# Altium footprint library PcbLib1.PcbLib: 7 footprints
Each footprint in its own frame and in the unit in brackets; x right, y up, seen from the top. Pads: shape width x height; smd on the part's side, far side on the other; paste and mask are expansions set on the pad; w line width, h text height; cw(c..) or ccw(c..) is an arc to the next point about the centre after c.
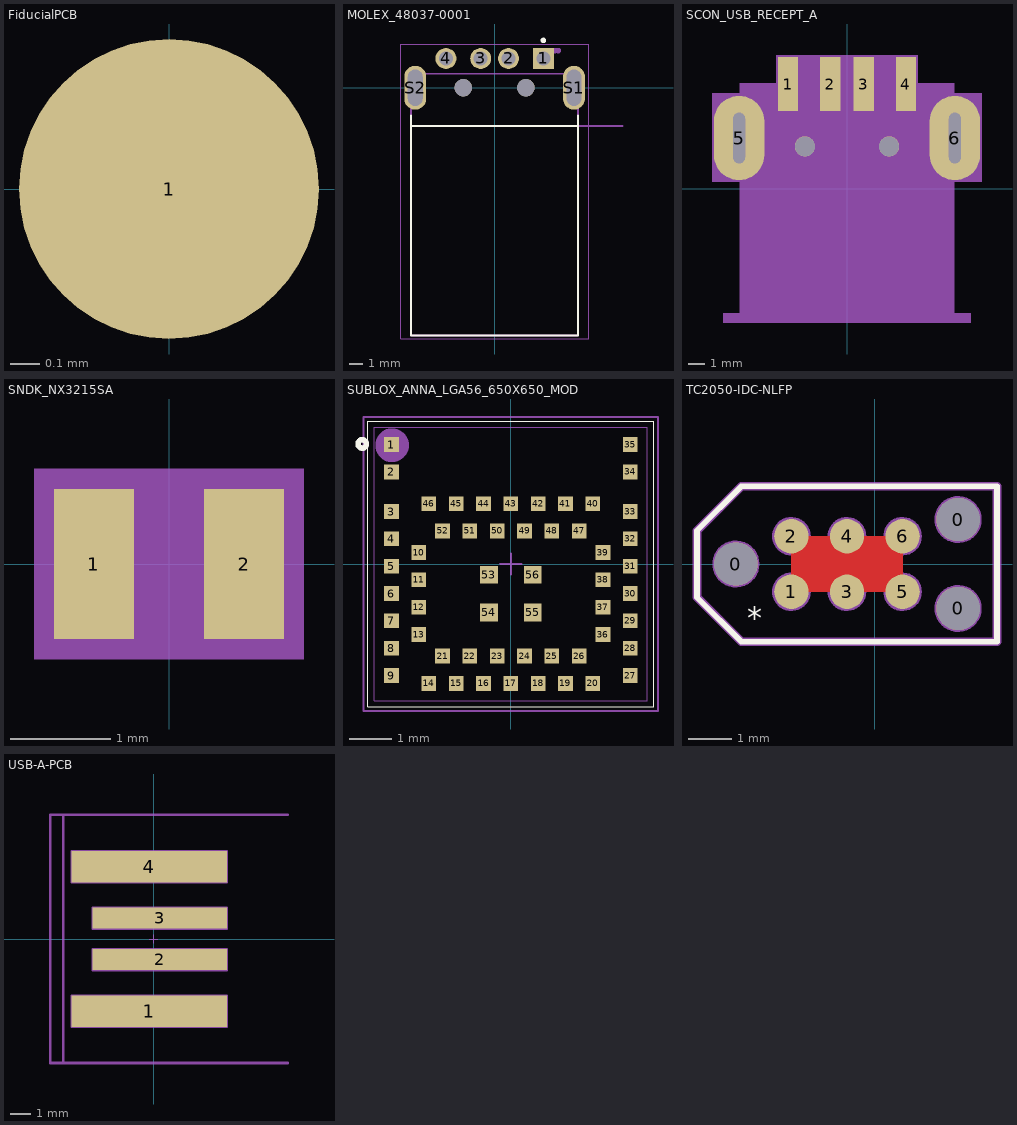
[diagram p0: the footprints below, top view; thin cyan lines are the x and y axes]

## FiducialPCB [mil]
pads (1):
  round 40 smd paste-40 mask+40: 1(0,0)

## MOLEX_48037-0001 [mm]
pads (8):
  rect 1.508x1.508 hole 1: 1(3.5,2.1)
  round 1.508 hole 1: 2(1,2.1) 3(-1,2.1) 4(-3.5,2.1)
  oval 1.575x3.15 hole 1.05 slot 2.6 at 90 deg: S1(5.7,0) S2(-5.7,0)
  round 1.25 hole 1.25 unplated: ""(-2.25,0) ""(2.25,0)
Top Overlay:
  circle w0.2: c3.5,3.4 r0.1
  lines w0.127: -6,-2 -6,-2.75 ; 6,-2 6,-2.75 ; -6,-2.75 -6,-17.8 6,-17.8 6,-2.75 ; -6,-2.75 6,-2.75
Top Assembly:
  circle w0.2: c4.572,2.667 r0.1
  lines w0.127: 9.2,-2.75 6,-2.75 ; -6,-2.75 -6,-17.8 6,-17.8 6,-2.75 ; -6,-2.75 6,-2.75 ; -6,-2.75 -6,1 6,1 6,-2.75
  text "'.Designator'" at -0.562,-9.052 h1.2
  text "PCB EDGE" at 6.28,-2.47 h1.52
Mechanical 13:
  circle w0.2: c4.318,2.667 r0.1
  lines w0.127: 9.2,-2.75 6,-2.75 ; -6,-2.75 -6,-17.8 6,-17.8 6,-2.75 ; -6,-2.75 6,-2.75 ; -6,-2.75 -6,1 6,1 6,-2.75
  text "PCB EDGE" at 6.28,-2.47 h1.52
Mechanical 15:
  lines w0.05: -6.75,-18.05 6.75,-18.05 6.75,3.11 -6.75,3.11 -6.75,-18.05
3D body "step_temp.STEP": height 2.25, standoff -3.72, extent -6.35,-18.014 6.348,2.011

## SCON_USB_RECEPT_A [mm] "SCON_USB_RECEPT_A"
pads (8):
  rect 1.2x3.2 smd: 1(-3.5,6.225) 2(-1,6.225) 3(1,6.225) 4(3.5,6.225)
  oval 3x5 / inner round 1.524 / far side oval 3x5 hole 3 slot 0.7 at 0 deg: 5(-6.4,3.025) 6(6.4,3.025)
  round 1.2 / inner round 1.524 / far side round 1.2 hole 1.2 unplated: ""(-2.5,2.525) ""(2.5,2.525)
Top Courtyard:
  dashed: -6.25,6.175 -6.25,-7.425 6.25,-7.425 6.25,6.175
Top 3D Body:
  region: -6.35,6.275 -4.2,6.275 -4.2,7.925 4.2,7.925 4.2,6.275 6.35,6.275 6.36,6.265 6.36,5.675 8,5.675 8,0.425 6.35,0.425 6.35,-7.355 6.36,-7.365 7.35,-7.365 7.35,-7.925 -7.35,-7.925 -7.35,-7.365 -6.36,-7.365 -6.35,-7.355 -6.35,0.425 -8,0.425 -8,5.675 -6.35,5.675
Mechanical 16:
  text "6" at 6.347,3.025 h0.13
  text "5" at -6.453,3.025 h0.13
  text "4" at 3.447,6.225 h0.13
  text "3" at 0.947,6.225 h0.13
  text "2" at -1.053,6.225 h0.13
  text "1" at -3.553,6.225 h0.13
Mechanical 17:
  lines w0.01: -6.25,-7.425 -6.25,6.175 6.25,6.175 6.25,-7.425 ; -6.25,-7.425 -7.25,-7.825 7.25,-7.825 6.25,-7.425 ; -6.25,-7.425 6.25,-7.425
Mechanical 18:
  text "Creator: mbud" at -1.39,-10.715 h0.18
  text "Package max height: 7 mm" at -2.24,-11.105 h0.18
  text "scon_usb_recept_a" at -1.77,-11.515 h0.18
3D body: height 3.81, standoff 0, extent -8,-7.925 8,7.925

## SNDK_NX3215SA [mm] "SNDK_NX3215SA"
pads (2):
  rect 0.8x1.5 smd: 1(-0.75,0) 2(0.75,0)
Top Courtyard:
  dashed: 1.35,0.95 -1.35,0.95 -1.35,-0.95 1.35,-0.95
Mechanical 10:
  circle w0.01: c-0.775,-0.325 r0.23
  lines w0.01: -1.05,-0.625 -1.05,0.6 1.05,0.6 1.05,-0.625 -1.05,-0.625
Top Assembly:
  lines w0.05: -1.275,-0.85 -1.275,0.875 1.275,0.875 1.275,-0.85 -1.275,-0.85
  text "'.Designator'" at 0.2,0.6 h1.2
Mechanical 15:
  lines w0.05: -0.254,0 0,0 ; 0,-0.254 0,0 ; 0,0.254 0,0 ; 0.254,0 0,0 ; -1.325,-0.925 -1.325,0.925 1.325,0.925 1.325,-0.925 -1.325,-0.925
3D body: height 0.25, standoff 0, extent -1.05,-0.6 1.05,0.6

## SUBLOX_ANNA_LGA56_650X650_MOD [mm] "SUBLOX_ANNA_LGA56_650X650_MOD"
pads (56):
  rect 0.35x0.35 smd: 1(-2.84,2.84) 2(-2.84,2.19) 4(-2.84,0.598) 5(-2.84,-0.052) 6(-2.84,-0.702) 7(-2.84,-1.352) 8(-2.84,-2.002) 9(-2.84,-2.652) 10(-2.19,0.273) 11(-2.19,-0.377) 12(-2.19,-1.027) 13(-2.19,-1.677) 14(-1.95,-2.84) 15(-1.3,-2.84) 16(-0.65,-2.84) 17(0,-2.84) 18(0.65,-2.84) 19(1.3,-2.84) 20(1.95,-2.84) 21(-1.625,-2.19) 22(-0.975,-2.19) 23(-0.325,-2.19) 24(0.325,-2.19) 25(0.975,-2.19) 26(1.625,-2.19) 27(2.84,-2.652) 28(2.84,-2.002) 29(2.84,-1.352) 30(2.84,-0.702) 31(2.84,-0.052) 32(2.84,0.598) 33(2.84,1.248) 34(2.84,2.19) 35(2.84,2.84) 36(2.19,-1.677) 37(2.19,-1.027) 38(2.19,-0.377) 39(2.19,0.273) 40(1.95,1.435) 41(1.3,1.435) 42(0.65,1.435) 43(0,1.435) 44(-0.65,1.435) 45(-1.3,1.435) 46(-1.95,1.435) 47(1.625,0.785) 48(0.975,0.785) 49(0.325,0.785) 50(-0.325,0.785) 51(-0.975,0.785) 52(-1.625,0.785)
  rect 0.35x0.35 smd paste+0: 3(-2.84,1.248)
  rect 0.42x0.42 smd: 53(-0.52,-0.252) 54(-0.52,-1.152) 55(0.52,-1.152) 56(0.52,-0.252)
Top Overlay:
  circle w0.13: c-3.535,2.855 r0.1
  lines w0.025: -3.4,-3.4 -3.4,3.4 3.4,3.4 3.4,-3.4 -3.4,-3.4
Assembly Notes:
  lines w0.05: -0.254,0 0.254,0 0,0 ; 0,-0.254 0,0 ; 0,0.254 0,0 ; -3.5,-3.5 -3.5,3.5 3.5,3.5 3.5,-3.5 -3.5,-3.5
Mechanical 11:
  text "25" at 0.803,-1.975 h0.15
  text "36" at 1.716,-1.747 h0.15
  text "26" at 1.453,-1.975 h0.15
  text "37" at 1.716,-1.097 h0.15
  text "19" at 1.128,-2.625 h0.15
  text "20" at 1.778,-2.625 h0.15
  text "48" at 0.803,1 h0.15
  text "47" at 1.453,1 h0.15
  text "39" at 1.716,0.203 h0.15
  text "38" at 1.716,-0.447 h0.15
  text "41" at 1.128,1.675 h0.15
  text "40" at 1.778,1.675 h0.15
  text "55" at 0.348,-1.602 h0.15
  text "24" at 0.153,-1.975 h0.15
  text "54" at -0.692,-1.602 h0.15
  text "22" at -1.147,-1.975 h0.15
  text "23" at -0.497,-1.975 h0.15
  text "16" at -0.822,-2.625 h0.15
  text "15" at -1.472,-2.625 h0.15
  text "17" at -0.172,-2.625 h0.15
  text "49" at 0.153,1 h0.15
  text "50" at -0.497,1 h0.15
  text "51" at -1.147,1 h0.15
  text "45" at -1.472,1.675 h0.15
  text "44" at -0.822,1.675 h0.15
  text "43" at -0.172,1.675 h0.15
  text "21" at -1.797,-1.975 h0.15
  text "7" at -2.664,-1.427 h0.15
  text "8" at -2.664,-2.077 h0.15
  text "13" at -2.06,-1.752 h0.15
  text "12" at -2.06,-1.102 h0.15
  text "14" at -2.122,-2.625 h0.15
  text "4" at -2.664,0.523 h0.15
  text "3" at -2.664,1.173 h0.15
  text "5" at -2.664,-0.127 h0.15
  text "10" at -2.06,0.198 h0.15
  text "11" at -2.06,-0.452 h0.15
  text "1" at -2.664,2.765 h0.15
  text "2" at -2.664,2.115 h0.15
  text "46" at -2.122,1.675 h0.15
  text "56" at 0.348,-0.702 h0.15
  text "53" at -0.692,-0.702 h0.15
  text "9" at -2.664,-2.727 h0.15
  text "6" at -2.664,-0.777 h0.15
  text "29" at 2.362,-1.422 h0.15
  text "28" at 2.362,-2.072 h0.15
  text "32" at 2.362,0.528 h0.15
  text "33" at 2.362,1.178 h0.15
  text "31" at 2.362,-0.122 h0.15
  text "35" at 2.378,2.775 h0.15
  text "34" at 2.362,2.12 h0.15
  text "18" at 0.478,-2.625 h0.15
  text "52" at -1.797,1 h0.15
  text "42" at 0.478,1.675 h0.15
  text "27" at 2.362,-2.722 h0.15
  text "30" at 2.362,-0.772 h0.15
Top Assembly:
  circle w0.5: c-2.825,2.825 r0.15
  lines w0.01: -3.25,-3.25 -3.25,3.25 3.25,3.25 3.25,-3.25 -3.25,-3.25
  text "'.Designator'" at -1.4,-0.75 h1.2
Mechanical 17:
  lines w0.01: -3.25,3.249 -3.25,3.249
3D body "ANNA-B112.STEP": height 1.15, standoff 0, extent -3.25,-3.302 3.25,3.198

## TC2050-IDC-NLFP [mil]
pads (9):
  round 39 hole 39 unplated mask+3: 0(-125,0) 0(75,-40) 0(75,40)
  round 31 smd paste-196.85: 1(-75,-25) 2(-75,25) 3(-25,-25) 4(-25,25) 5(25,-25) 6(25,25)
Top Layer:
  pour cut-out: -75.11,25 -75.11,-25 25.1,-25 25.1,25
Top Overlay:
  lines w5: -160,-30 -160,30 -120,70 100,70 110,70 110,-70 -120,-70 -160,-30
  text "*" at -115,-58.28 h19.68
Top 3D Body:
  circle w3.94: c-125,0 r19.26
  circle w3.94: c75,39.98 r19.26
  circle w3.94: c75,-39.98 r19.26
  circle w3.94: c-25,24.99 r15.45
  circle w3.94: c25,24.99 r15.45
  circle w3.94: c25,-24.99 r15.45
  circle w3.94: c-25,-24.99 r15.45
  circle w3.94: c-75,-24.99 r15.45
  circle w3.94: c-75,24.99 r15.45
Bottom 3D Body:
  circle w3.94: c75,-39.98 r19.26
  circle w3.94: c75,39.98 r19.26
  circle w3.94: c-125,0 r19.26
Top Assembly:
  lines w7.87: -160,-30 -120,-70 110,-70 110,70 -120,70 -160,30 -160,-30
  text "'.Designator'" at -20,1.08 h59.06

## USB-A-PCB [mil]
pads (4):
  rect 296x60 smd paste-196.85: 1(-7.87,-137.8) 4(-7.87,138)
  rect 256x40 smd paste-196.85: 2(12,-39.37) 3(12,40)
Assembly Notes:
  lines w1.97: -7.87,0 7.87,0 0,0 ; 0,-7.87 0,7.87
  lines w5: -172.24,-236.22 -172.24,237 ; 255.91,-236.22 -196.85,-236.22 -196.85,237 255.91,237
  text "Card edge" at -222.44,-119.69 h62
Top 3D Body:
  lines w3.94: -156,-167.8 140,-167.8 140,-107.8 -156,-107.8 -156,-167.8 ; -156,108 -156,168 140,168 140,108 -156,108 ; -116,-60 140,-60 140,-19 -116,-19 -116,-60 ; -116,19.37 -116,60.37 140,60.37 140,19.37 -116,19.37
Top Assembly:
  lines w3.94: 255.91,-236.22 -196.85,-236.22 -196.85,236.22 255.91,236.22
  text "'.Designator'" at 7.09,22.44 h47.24